# EAGLE library part P-H501-PC (library switch)
DP3T Stomp Switch
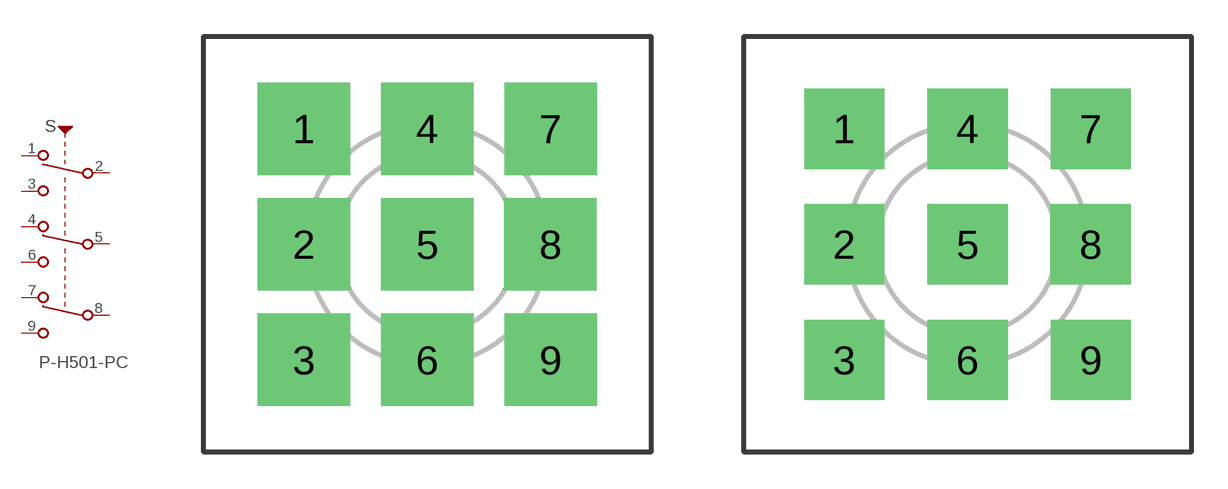
[diagram p16: symbol with the pads of P-H501; footprints P-H501, P-H501-PC]

Designator prefix S

## P-H501-PC_E  [P-H501]
1  A1  pas
2  A2  pas
3  A3  pas
4  B1  pas
5  B2  pas
6  B3  pas
7  C1  pas
8  C2  pas
9  C3  pas

## P-H501-PC  [P-H501-PC]
Pads as for P-H501

## Footprint P-H501 (pad centres in mm)
DP3T Stomp Switch Blue Taiwan
drill 2.54 pad 3.81 square: 1 -5.08,4.763; 2 -5.08,0; 3 -5.08,-4.763; 4 0,4.763; 5 0,0; 6 0,-4.763; 7 5.08,4.763; 8 5.067,0; 9 5.08,-4.763

## Footprint P-H501-PC (pad centres in mm)
DP3T Stomp Switch Blue Taiwan, PC Mount Leads
drill 1.778 pad 3.302 square: 1 -5.08,4.763; 2 -5.08,0; 3 -5.08,-4.763; 4 0,4.763; 5 0,0; 6 0,-4.763; 7 5.08,4.763; 8 5.067,0; 9 5.08,-4.763